# EAGLE library part SOCKET_W_1X2 (library bottom)
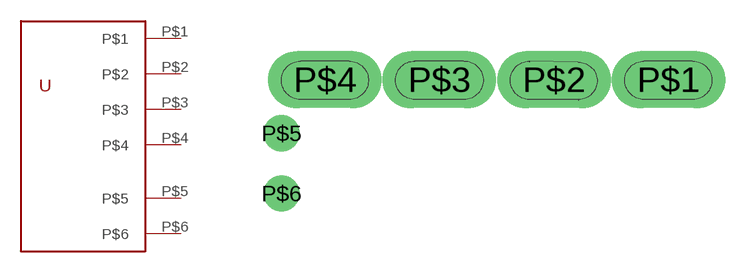
[diagram p0: symbol with the pads of SLICE_SOCKET_W_1X2; footprint SLICE_SOCKET_W_1X2]

Designator prefix -

## SOCKET_W_1X2  [SLICE_SOCKET_W_1X2]
P$1  P$1
P$2  P$2
P$3  P$3
P$4  P$4
P$5  P$5
P$6  P$6

## Footprint SLICE_SOCKET_W_1X2 (pad centres in mm)
drill 1.6 pad 2.095 long: P$1 0,0; P$2 -4.826,0; P$3 -9.652,0; P$4 -14.478,0
drill 1.016 round: P$5 -16.307,-2.261; P$6 -16.307,-4.801